# EAGLE library part MC74HC164 (library r_cubed)
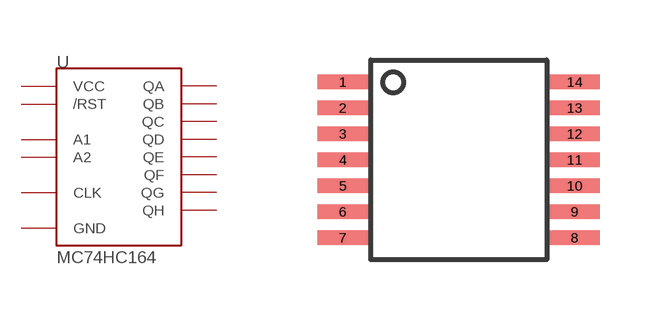
[diagram p5: symbol with the pads of TSSOP-14; footprint TSSOP-14]

Designator prefix -

## MC74HC164  [TSSOP-14]
1  A1
2  A2
3  QA
4  QB
5  QC
6  QD
7  GND
8  CLK
9  /RST
10  QE
11  QF
12  QG
13  QH
14  VCC

## Footprint TSSOP-14 (pad centres in mm)
smd 1.26 x 0.36: 1 -2.9,1.95; 2 -2.9,1.3; 3 -2.9,0.65; 4 -2.9,0; 5 -2.9,-0.65; 6 -2.9,-1.3; 7 -2.9,-1.95; 8 2.9,-1.95; 9 2.9,-1.3; 10 2.9,-0.65; 11 2.9,0; 12 2.9,0.65; 13 2.9,1.3; 14 2.9,1.95